# Altium schematic symbol library SCH - MCU - NUVOTON - NUVOTON M253LD3AE.SchLib: 1 symbol
Pins are listed as number, name and electrical type; pins without a type are passive.

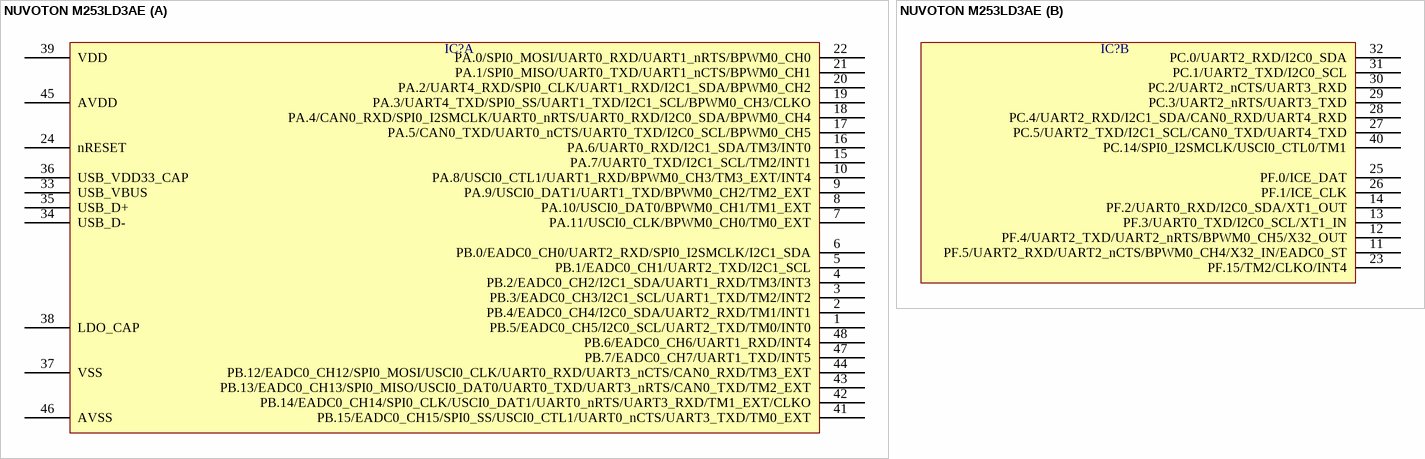
[diagram p0: symbol NUVOTON M253LD3AE]

## NUVOTON M253LD3AE
designator IC?  (value not drawn)
part A pins: 1 PB.5/EADC0_CH5/I2C0_SCL/UART2_TXD/TM0/INT0, 2 PB.4/EADC0_CH4/I2C0_SDA/UART2_RXD/TM1/INT1, 3 PB.3/EADC0_CH3/I2C1_SCL/UART1_TXD/TM2/INT2, 4 PB.2/EADC0_CH2/I2C1_SDA/UART1_RXD/TM3/INT3, 5 PB.1/EADC0_CH1/UART2_TXD/I2C1_SCL, 6 PB.0/EADC0_CH0/UART2_RXD/SPI0_I2SMCLK/I2C1_SDA, 7 PA.11/USCI0_CLK/BPWM0_CH0/TM0_EXT, 8 PA.10/USCI0_DAT0/BPWM0_CH1/TM1_EXT, 9 PA.9/USCI0_DAT1/UART1_TXD/BPWM0_CH2/TM2_EXT, 10 PA.8/USCI0_CTL1/UART1_RXD/BPWM0_CH3/TM3_EXT/INT4, 15 PA.7/UART0_TXD/I2C1_SCL/TM2/INT1, 16 PA.6/UART0_RXD/I2C1_SDA/TM3/INT0, 17 PA.5/CAN0_TXD/UART0_nCTS/UART0_TXD/I2C0_SCL/BPWM0_CH5, 18 PA.4/CAN0_RXD/SPI0_I2SMCLK/UART0_nRTS/UART0_RXD/I2C0_SDA/BPWM0_CH4, 19 PA.3/UART4_TXD/SPI0_SS/UART1_TXD/I2C1_SCL/BPWM0_CH3/CLKO, 20 PA.2/UART4_RXD/SPI0_CLK/UART1_RXD/I2C1_SDA/BPWM0_CH2, 21 PA.1/SPI0_MISO/UART0_TXD/UART1_nCTS/BPWM0_CH1, 22 PA.0/SPI0_MOSI/UART0_RXD/UART1_nRTS/BPWM0_CH0, 24 nRESET, 33 USB_VBUS, 34 USB_D-, 35 USB_D+, 36 USB_VDD33_CAP, 37 VSS, 38 LDO_CAP, 39 VDD, 41 PB.15/EADC0_CH15/SPI0_SS/USCI0_CTL1/UART0_nCTS/UART3_TXD/TM0_EXT, 42 PB.14/EADC0_CH14/SPI0_CLK/USCI0_DAT1/UART0_nRTS/UART3_RXD/TM1_EXT/CLKO, 43 PB.13/EADC0_CH13/SPI0_MISO/USCI0_DAT0/UART0_TXD/UART3_nRTS/CAN0_TXD/TM2_EXT, 44 PB.12/EADC0_CH12/SPI0_MOSI/USCI0_CLK/UART0_RXD/UART3_nCTS/CAN0_RXD/TM3_EXT, 45 AVDD, 46 AVSS, 47 PB.7/EADC0_CH7/UART1_TXD/INT5, 48 PB.6/EADC0_CH6/UART1_RXD/INT4
part B pins: 11 PF.5/UART2_RXD/UART2_nCTS/BPWM0_CH4/X32_IN/EADC0_ST, 12 PF.4/UART2_TXD/UART2_nRTS/BPWM0_CH5/X32_OUT, 13 PF.3/UART0_TXD/I2C0_SCL/XT1_IN, 14 PF.2/UART0_RXD/I2C0_SDA/XT1_OUT, 23 PF.15/TM2/CLKO/INT4, 25 PF.0/ICE_DAT, 26 PF.1/ICE_CLK, 27 PC.5/UART2_TXD/I2C1_SCL/CAN0_TXD/UART4_TXD, 28 PC.4/UART2_RXD/I2C1_SDA/CAN0_RXD/UART4_RXD, 29 PC.3/UART2_nRTS/UART3_TXD, 30 PC.2/UART2_nCTS/UART3_RXD, 31 PC.1/UART2_TXD/I2C0_SCL, 32 PC.0/UART2_RXD/I2C0_SDA, 40 PC.14/SPI0_I2SMCLK/USCI0_CTL0/TM1